# Altium footprint library DFN-6(2.0X2.0).PcbLib: 1 footprints
Each footprint in its own frame and in the unit in brackets; x right, y up, seen from the top. Pads: shape width x height; smd on the part's side, far side on the other; paste and mask are expansions set on the pad; w line width, h text height; cw(c..) or ccw(c..) is an arc to the next point about the centre after c.
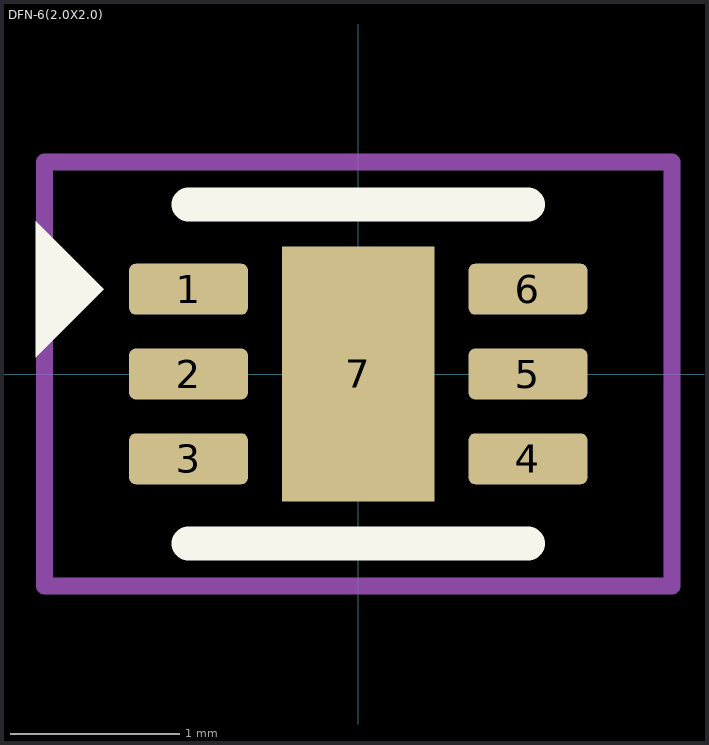
[diagram p0: the footprint, top view; thin cyan lines are the x and y axes]

## DFN-6(2.0X2.0) [mm]
pads (7):
  rrect25% 0.7x0.3 smd: 1(-1,0.5) 2(-1,0) 3(-1,-0.5) 4(1,-0.5) 5(1,0) 6(1,0.5)
  rect 0.9x1.5 smd paste-2: 7(0,0)
Top Overlay:
  region: -1.9,0.1 -1.9,0.9 -1.5,0.5
  lines w0.2: -1,-1 1,-1 ; -1,1 1,1
Top Paste:
  region: 0.29,-0.46 -0.29,-0.46 -0.29,0.46 0.29,0.46
Top Courtyard:
  lines w0.1: -1.85,-1.25 -1,-1.25 1.85,-1.25 1.85,1.25 -1.85,1.25 -1.85,-1.25
3D body "DFN_V33R_STM.step": height 0.81, standoff 0, extent -1.003,-1.003 1.003,1.003